# EAGLE library part BL-R8723BT1 (library nintendo-classic)
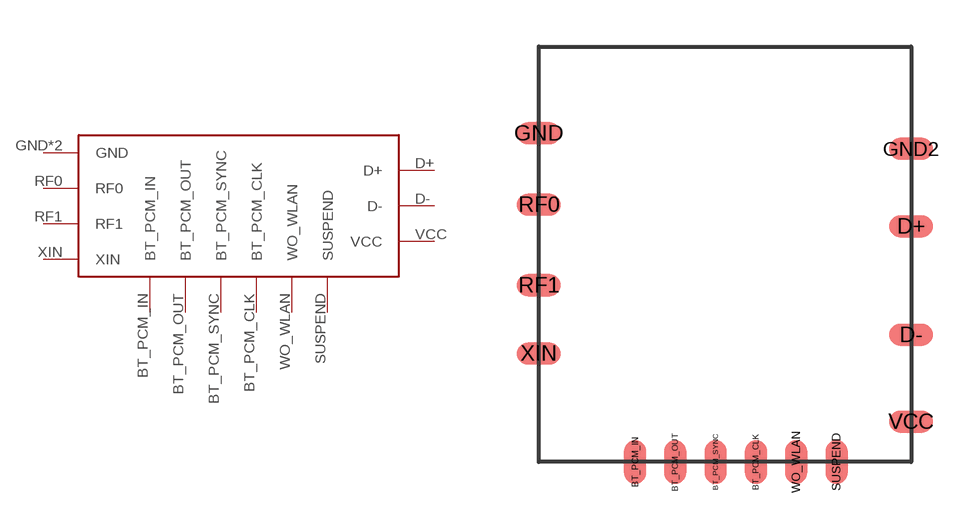
[diagram p4: symbol with the pads of BL-R8723BT1; footprint BL-R8723BT1]

Designator prefix -

## BL-R8723BT1  [BL-R8723BT1]
BT_PCM_CLK  BT_PCM_CLK
BT_PCM_IN  BT_PCM_IN
BT_PCM_OUT  BT_PCM_OUT
BT_PCM_SYNC  BT_PCM_SYNC
D+  D+
D-  D-
GND  GND
GND2  GND
RF0  RF0
RF1  RF1
SUSPEND  SUSPEND
VCC  VCC
WO_WLAN  WO_WLAN
XIN  XIN

## Footprint BL-R8723BT1 (pad centres in mm)
smd 0.711 x 1.422: BT_PCM_CLK 1,-6.7; BT_PCM_IN -2.9,-6.7; BT_PCM_OUT -1.6,-6.7; BT_PCM_SYNC -0.3,-6.7; SUSPEND 3.6,-6.7; WO_WLAN 2.3,-6.7
smd 1.422 x 0.711: D+ 6,0.9; D- 6,-2.6; GND -6,3.9; GND2 6,3.4; RF0 -6,1.6; RF1 -6,-1; VCC 6,-5.4; XIN -6,-3.2